# Altium footprint library 模块封装库.PcbLib: 1 footprints
Each footprint in its own frame and in the unit in brackets; x right, y up, seen from the top. Pads: shape width x height; smd on the part's side, far side on the other; paste and mask are expansions set on the pad; w line width, h text height; cw(c..) or ccw(c..) is an arc to the next point about the centre after c.
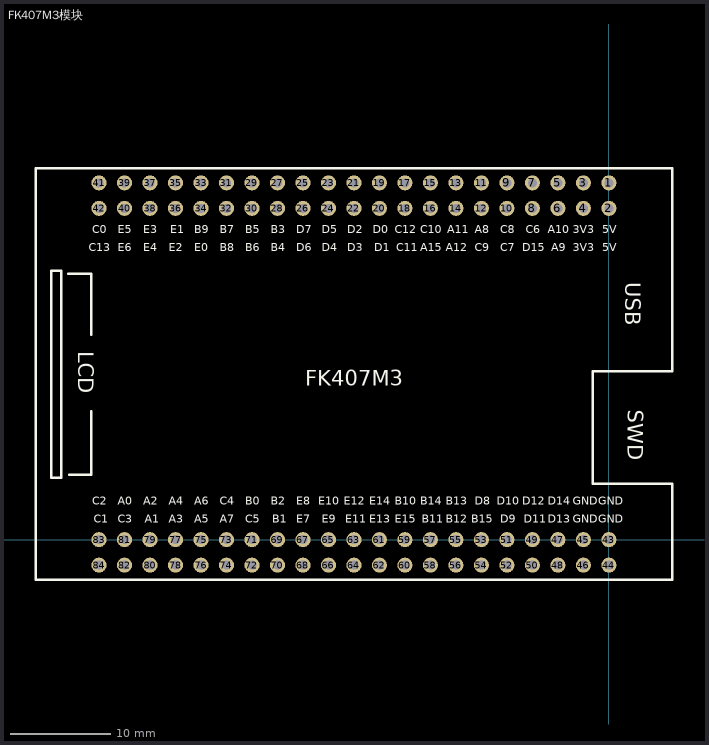
[diagram p0: the footprint, top view; thin cyan lines are the x and y axes]

## FK407M3模块 [mm]
pads (84):
  round 1.5 hole 0.9: 1(0,35.56) 2(0,33.02) 3(-2.54,35.56) 4(-2.54,33.02) 5(-5.08,35.56) 6(-5.08,33.02) 7(-7.62,35.56) 8(-7.62,33.02) 9(-10.16,35.56) 10(-10.16,33.02) 11(-12.7,35.56) 12(-12.7,33.02) 13(-15.24,35.56) 14(-15.24,33.02) 15(-17.78,35.56) 16(-17.78,33.02) 17(-20.32,35.56) 18(-20.32,33.02) 19(-22.86,35.56) 20(-22.86,33.02) 21(-25.4,35.56) 22(-25.4,33.02) 23(-27.94,35.56) 24(-27.94,33.02) 25(-30.48,35.56) 26(-30.48,33.02) 27(-33.02,35.56) 28(-33.02,33.02) 29(-35.56,35.56) 30(-35.56,33.02) 31(-38.1,35.56) 32(-38.1,33.02) 33(-40.64,35.56) 34(-40.64,33.02) 35(-43.18,35.56) 36(-43.18,33.02) 37(-45.72,35.56) 38(-45.72,33.02) 39(-48.26,35.56) 40(-48.26,33.02) 41(-50.8,35.56) 42(-50.8,33.02) 43(0,0) 44(0,-2.54) 45(-2.54,0) 46(-2.54,-2.54) 47(-5.08,0) 48(-5.08,-2.54) 49(-7.62,0) 50(-7.62,-2.54) 51(-10.16,0) 52(-10.16,-2.54) 53(-12.7,0) 54(-12.7,-2.54) 55(-15.24,0) 56(-15.24,-2.54) 57(-17.78,0) 58(-17.78,-2.54) 59(-20.32,0) 60(-20.32,-2.54) 61(-22.86,0) 62(-22.86,-2.54) 63(-25.4,0) 64(-25.4,-2.54) 65(-27.94,0) 66(-27.94,-2.54) 67(-30.48,0) 68(-30.48,-2.54) 69(-33.02,0) 70(-33.02,-2.54) 71(-35.56,0) 72(-35.56,-2.54) 73(-38.1,0) 74(-38.1,-2.54) 75(-40.64,0) 76(-40.64,-2.54) 77(-43.18,0) 78(-43.18,-2.54) 79(-45.72,0) 80(-45.72,-2.54) 81(-48.26,0) 82(-48.26,-2.54) 83(-50.8,0) 84(-50.8,-2.54)
Top Overlay:
  lines w0.254: -53.871,26.518 -51.585,26.518 -51.585,20.422 ; -53.744,6.452 -51.585,6.452 -51.585,12.802 ; -57.097,-4.01 6.303,-4.01 6.303,5.593 -1.591,5.593 -1.591,16.793 6.303,16.793 6.303,37.03 -57.097,37.03 -57.097,-4.01 ; -55.564,6.183 -55.564,26.802 -54.548,26.802 -54.548,6.183 -55.564,6.183
  text "FK407M3" at -30.249,15.342 h1.52
  text "LCD" at -52.855,18.771 h1.52
  text "SWD" at 1.882,12.929 h1.52
  text "GND" at -1.083,1.666 h0.81
  text "GND" at -3.623,1.666 h0.81
  text "D13" at -6.096,1.666 h0.81
  text "D11" at -8.5,1.666 h0.81
  text "D9" at -10.837,1.666 h0.81
  text "B15" at -13.716,1.666 h0.81
  text "B12" at -16.256,1.666 h0.81
  text "B11" at -18.66,1.666 h0.81
  text "E15" at -21.336,1.666 h0.81
  text "E13" at -23.876,1.666 h0.81
  text "E11" at -26.28,1.666 h0.81
  text "E9" at -28.617,1.666 h0.81
  text "E7" at -31.157,1.666 h0.81
  text "B1" at -33.562,1.666 h0.81
  text "C5" at -36.237,1.666 h0.81
  text "A7" at -38.777,1.666 h0.81
  text "A5" at -41.317,1.666 h0.81
  text "A3" at -43.857,1.666 h0.81
  text "A1" at -46.262,1.666 h0.81
  text "C3" at -48.937,1.666 h0.81
  text "C1" at -51.342,1.666 h0.81
  text "C2" at -51.477,3.48 h0.81
  text "A0" at -48.937,3.48 h0.81
  text "A2" at -46.397,3.48 h0.81
  text "A4" at -43.857,3.48 h0.81
  text "A6" at -41.317,3.48 h0.81
  text "C4" at -38.777,3.48 h0.81
  text "B0" at -36.237,3.48 h0.81
  text "B2" at -33.697,3.48 h0.81
  text "E8" at -31.157,3.48 h0.81
  text "E10" at -28.956,3.48 h0.81
  text "E12" at -26.416,3.48 h0.81
  text "E14" at -23.876,3.48 h0.81
  text "B10" at -21.336,3.48 h0.81
  text "B14" at -18.796,3.48 h0.81
  text "B13" at -16.256,3.48 h0.81
  text "D8" at -13.377,3.48 h0.81
  text "D10" at -11.176,3.48 h0.81
  text "D12" at -8.636,3.48 h0.81
  text "D14" at -6.096,3.48 h0.81
  text "GND" at -3.623,3.48 h0.81
  text "GND" at -1.083,3.48 h0.81
  text "5V" at -0.677,28.727 h0.81
  text "3V3" at -3.623,28.727 h0.81
  text "A9" at -5.757,28.727 h0.81
  text "D15" at -8.636,28.727 h0.81
  text "C7" at -10.837,28.727 h0.81
  text "C9" at -13.377,28.727 h0.81
  text "A12" at -16.256,28.727 h0.81
  text "A15" at -18.796,28.727 h0.81
  text "C11" at -21.2,28.727 h0.81
  text "D1" at -23.402,28.727 h0.81
  text "D3" at -26.077,28.727 h0.81
  text "D4" at -28.617,28.727 h0.81
  text "D6" at -31.157,28.727 h0.81
  text "B4" at -33.697,28.727 h0.81
  text "B6" at -36.237,28.727 h0.81
  text "B8" at -38.777,28.727 h0.81
  text "E0" at -41.317,28.727 h0.81
  text "E2" at -43.857,28.727 h0.81
  text "E4" at -46.397,28.727 h0.81
  text "E6" at -48.937,28.727 h0.81
  text "C13" at -51.816,28.727 h0.81
  text "C0" at -51.477,30.556 h0.81
  text "E5" at -48.937,30.556 h0.81
  text "E3" at -46.397,30.556 h0.81
  text "E1" at -43.722,30.556 h0.81
  text "B9" at -41.317,30.556 h0.81
  text "B7" at -38.777,30.556 h0.81
  text "B5" at -36.237,30.556 h0.81
  text "B3" at -33.697,30.556 h0.81
  text "D7" at -31.157,30.556 h0.81
  text "D5" at -28.617,30.556 h0.81
  text "D2" at -26.077,30.556 h0.81
  text "D0" at -23.537,30.556 h0.81
  text "C12" at -21.336,30.556 h0.81
  text "C10" at -18.796,30.556 h0.81
  text "A11" at -16.12,30.556 h0.81
  text "A8" at -13.377,30.556 h0.81
  text "C8" at -10.837,30.556 h0.81
  text "C6" at -8.297,30.556 h0.81
  text "A10" at -6.096,30.556 h0.81
  text "3V3" at -3.623,30.556 h0.81
  text "5V" at -0.677,30.556 h0.81
  text "USB" at 1.628,25.629 h1.52